# Altium integrated library gestion de potencia.IntLib: 8 symbols
Pins are listed as number, name and electrical type; pins without a type are passive.

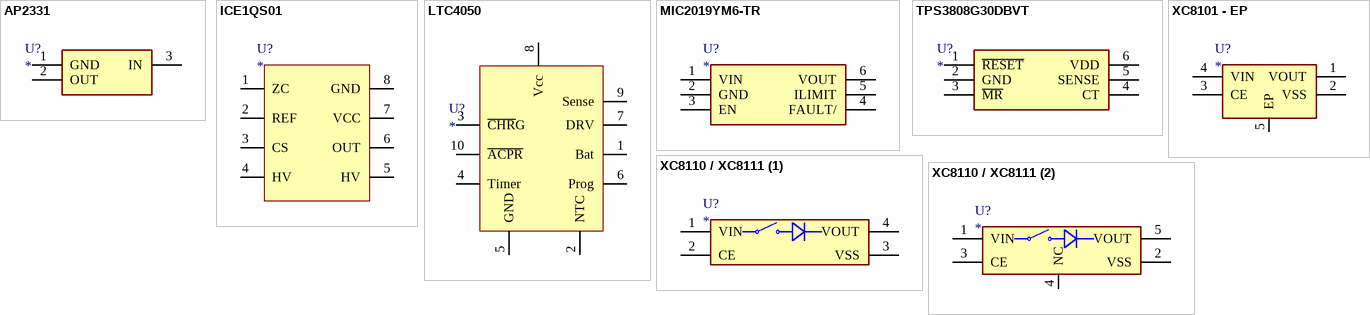
[diagram p0: symbols AP2331 to XC8110 / XC8111 (2)]

## AP2331
designator U?
datasheet: https://www.diodes.com/assets/Datasheets/AP2331.pdf
footprint SOT95P285X130-3N
pins: 1 GND, 2 OUT, 3 IN

## ICE1QS01
designator U?
Quasi-Resonant PWM Controller; datasheet: https://www.mouser.es/datasheet/2/196/Datasheet_ICE2QS01_V2.2_20110704-91482.pdf; ComponentLink1Description: mouser; ComponentLink1URL: https://www.mouser.es/ProductDetail/Infineon-Technologies/ICE1QS01?qs=OWKQh20churokLrvNggzTw%3D%3D
pins: 1 ZC, 2 REF, 3 CS, 4 HV, 5 HV, 6 OUT, 7 VCC, 8 GND

## LTC4050
designator U?
datasheet: https://www.mouser.es/datasheet/2/609/4050f-1270300.pdf; ComponentLink1Description: mouser; ComponentLink1URL: https://www.mouser.es/ProductDetail/Analog-Devices-Inc/LTC4050EMS-42PBF?qs=sGAEpiMZZMsKEdP9slC0YV8Drf1UCZstXIZEDR4n2vo%3D
pins: 1 Bat, 2 NTC, 3 ~{CHR}G, 4 Timer, 5 GND, 6 Prog, 7 DRV, 8 Vcc, 9 Sense, 10 ~{ACPR}

## MIC2019YM6-TR
designator U?
datasheet: https://www.mouser.es/datasheet/2/268/MIC20xx_Fixed_and_Adjustable_Current_Limiting_Powe-2930337.pdf; ComponentLink1Description: mouser; ComponentLink1URL: https://www.mouser.es/ProductDetail/Microchip-Technology-Micrel/MIC2019YM6-TR?qs=Y3Q3JoKAO1ReVaN%2FoNfqqA%3D%3D
footprint SOT95P280X145-6N
pins: 1 VIN, 2 GND, 3 EN, 4 FAULT/, 5 ILIMIT, 6 VOUT

## TPS3808G30DBVT
designator U?
datasheet: https://www.ti.com/lit/ds/symlink/tps3808.pdf?HQS=dis-mous-null-mousermode-dsf-pf-null-wwe&ts=1647614683482&ref_url=https%253A%252F%252Fhu.mouser.com%252F; ComponentLink1Description: mouser; ComponentLink1URL: https://www.mouser.es/ProductDetail/Texas-Instruments/TPS3808G30DBVT?qs=zwk82MlA57ZlwUsa7CfBPA%3D%3D
footprint SOT95P280X145-6N
pins: 1 ~{RESET}, 2 GND, 3 ~{MR}, 4 CT, 5 SENSE, 6 VDD

## XC8101 - EP
designator U?
ComponentLink1Description: Datasheet; ComponentLink1URL: https://www.mouser.es/datasheet/2/760/TOSL_S_A0011434784_1-2575047.pdf
footprint SON60P160X120X60-5N
pins: 1 VOUT, 2 VSS, 3 CE, 4 VIN, 5 EP

## XC8110 / XC8111 (1)
designator U?
ComponentLink1Description: datasheet; ComponentLink1URL: https://www.mouser.com/catalog/specsheets/Torex%20Semiconductor_XC8110_XC8111%20Series%20Datasheet.pdf
footprint WLP-4
pins: 1 VIN, 2 CE, 3 VSS, 4 VOUT

## XC8110 / XC8111 (2)
designator U?
ComponentLink1Description: datasheet; ComponentLink1URL: https://www.mouser.com/catalog/specsheets/Torex%20Semiconductor_XC8110_XC8111%20Series%20Datasheet.pdf
footprint SOT23-5
pins: 1 VIN, 2 VSS, 3 CE, 4 NC, 5 VOUT